# Altium footprint library OSSI.PCBLIB: 194 footprints (part 4 of 13)
Each footprint in its own frame and in the unit in brackets; x right, y up, seen from the top. Pads: shape width x height; smd on the part's side, far side on the other; paste and mask are expansions set on the pad; w line width, h text height; cw(c..) or ccw(c..) is an arc to the next point about the centre after c.
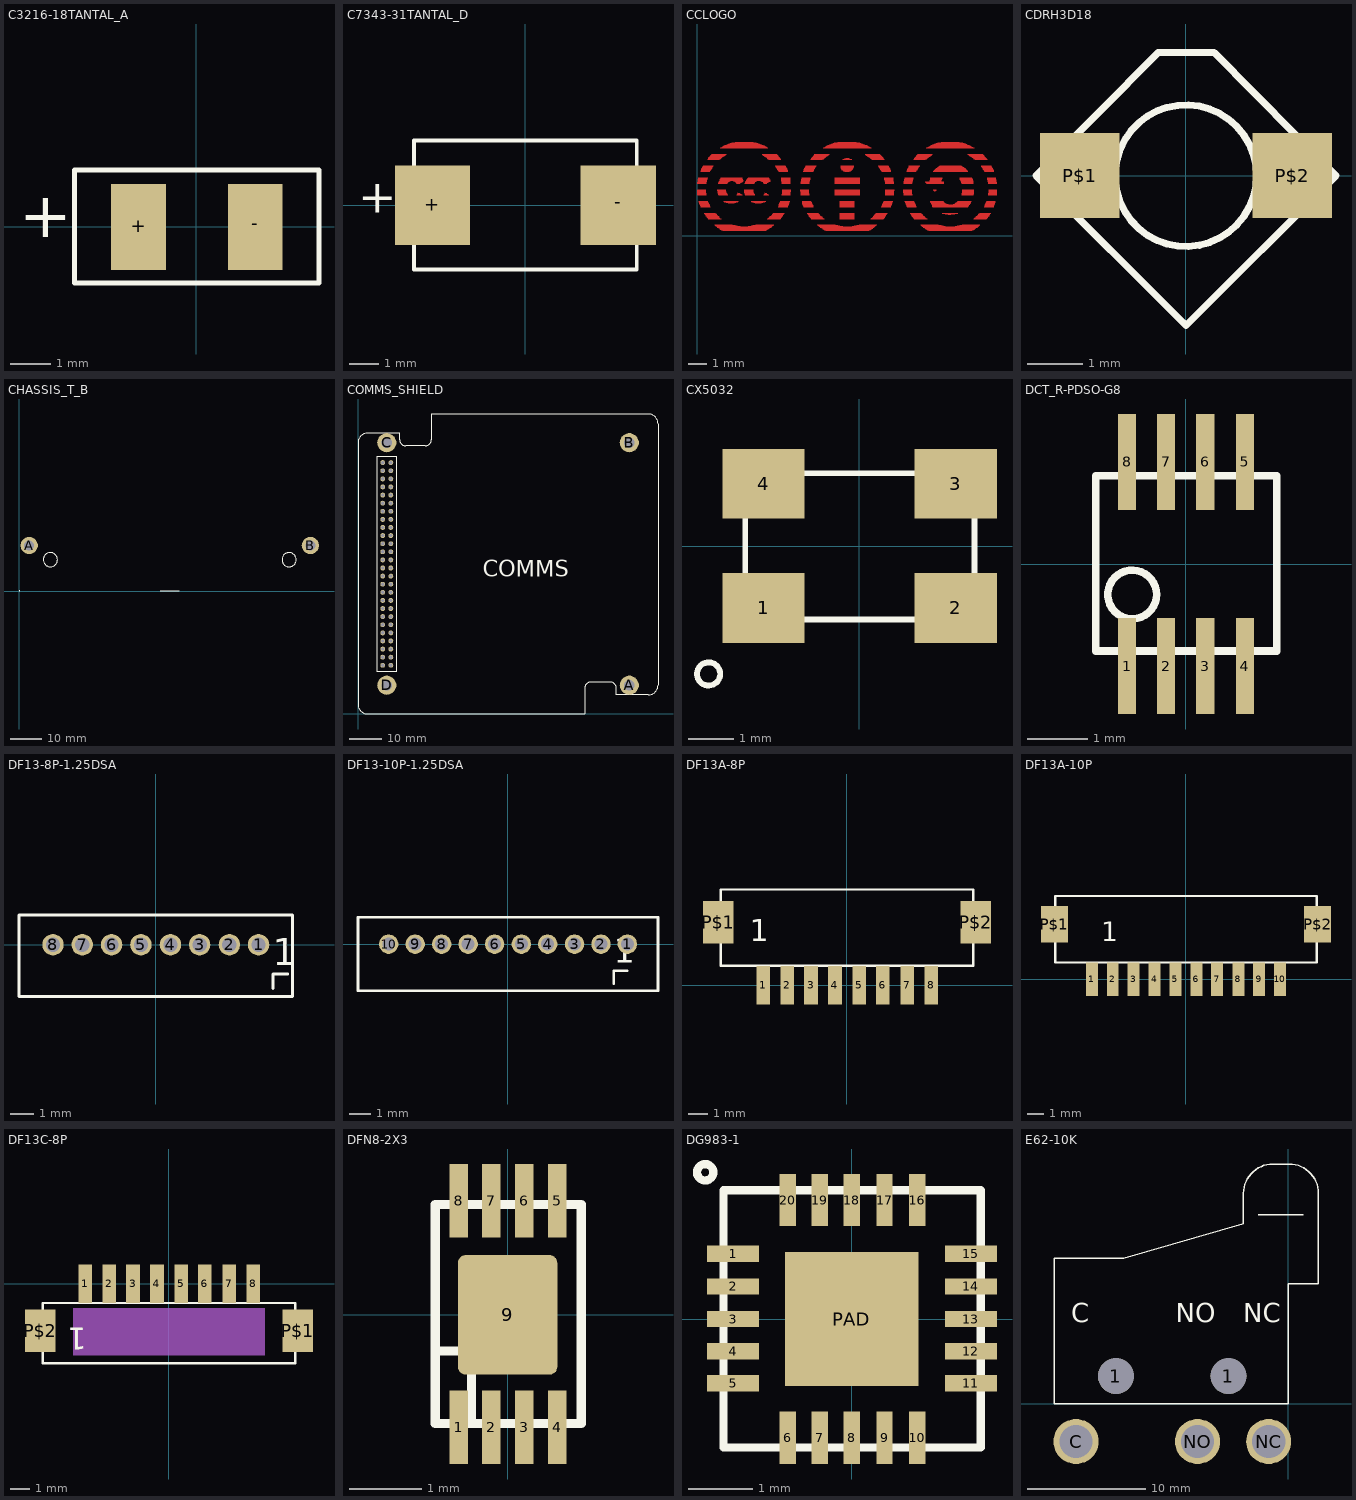
[diagram p3: the footprints below, top view; thin cyan lines are the x and y axes]

## C3216-18TANTAL_A [mil]
pads (2):
  rect 54x85 smd: +(-57.09,0) -(58,0)
Top Overlay:
  lines w5: -120.08,-55.12 121,-55.12 121,56 -120.08,56 -120.08,-55.12
  text "+" at -175,-25 h77.5
Mechanical 2:
  text ">NAME" at -125,75 h77.5
Mechanical 4:
  text ">VALUE" at -125,-125 h77.5

## C7343-31TANTAL_D [mil]
pads (2):
  rect 101x107 smd: +(-125,0) -(125,0)
Top Overlay:
  lines w5: -149.61,-86.61 150,-86.61 150,87 -149.61,87 -149.61,-86.61
  text "+" at -225,-25 h77.5
Mechanical 2:
  text ">NAME" at -157.48,119 h77.5
Mechanical 4:
  text ">VALUE" at -157.48,-157.48 h77.5

## CCLOGO [mil]
Top Layer:
  drawing of 1816 lines, arcs and shapes, not listed
Top Solder:
  drawing of 1816 lines, arcs and shapes, not listed

## CDRH3D18 [mil]
pads (2):
  rect 56x60 smd: P$1(-74.8,0) P$2(75,0)
Top Overlay:
  circle w5: c0,0 r50
  lines w5: -105.79,0 -19.49,87 20,87 106,0 0,-105.79 -105.79,0
Mechanical 2:
  text ">NAME" at -100,-250 h77.5
Mechanical 4:
  text ">VALUE" at -100,-300 h77.5

## CHASSIS_T_B [mil]
pads (2):
  round 217 hole 126: A(128,571) B(3652,571)
Top Overlay:
  circle w5: c394,394 r89
  circle w5: c3386,394 r89
  region: 0,0 10,0 10,10 0,10
  lines w5: 1772,0 2008,0

## COMMS_SHIELD [mil]
pads (56):
  round 60 hole 40: 1(405,601) 2(305,601) 3(405,701) 4(305,701) 5(405,801) 6(305,801) 7(405,901) 8(305,901) 9(405,1001) 10(305,1001) 11(405,1101) 12(305,1101) 13(405,1201) 14(305,1201) 15(405,1301) 16(305,1301) 17(405,1401) 18(305,1401) 19(405,1501) 20(305,1501) 21(405,1601) 22(305,1601) 23(405,1701) 24(305,1701) 25(405,1801) 26(305,1801) 27(405,1901) 28(305,1901) 29(405,2001) 30(305,2001) 31(405,2101) 32(305,2101) 33(405,2201) 34(305,2201) 35(405,2301) 36(305,2301) 37(405,2401) 38(305,2401) 39(405,2501) 40(305,2501) 41(405,2601) 42(305,2601) 43(405,2701) 44(305,2701) 45(405,2801) 46(305,2801) 47(405,2901) 48(305,2901) 49(405,3001) 50(305,3001) 51(405,3101) 52(305,3101)
  round 237 hole 126: A(3347,355) B(3347,3347) C(355,3347) D(355,355)
Top Overlay:
  lines w0: 0,119 0,3347 cw(c118.5,3346.5) 119,3465 512,3465 512,3386 ccw(c590.5,3386.5) 591,3308 827,3308 ccw(c827.5,3386.5) 906,3386 906,3701 3583,3701 cw(c3583,3583) 3701,3583 3701,355 cw(c3583,355) 3583,237 3189,237 3189,315 ccw(c3110.5,315.5) 3111,394 2875,394 ccw(c2875,315) 2796,315 2796,0 119,0 cw(c119,119) 0,119
  lines w10: 237,521 472,521 472,3181 237,3181 237,521
  text "COMMS" at 1536,1693 h201.45

## CX5032 [mil]
pads (4):
  rect 71x60 smd: 1(-82.68,-53.15) 2(83,-53.15) 3(83,54) 4(-82.68,54)
Top Overlay:
  circle w5: c-130,-110 r10
  lines w5: -98.43,-62.99 99,-62.99 99,63 -98.43,63 -98.43,-62.99
Mechanical 2:
  text ">NAME" at -130,-200 h77.5
Mechanical 4:
  text ">VALUE" at -130,-250 h77.5

## DCT_R-PDSO-G8 [mil]
pads (8):
  rect 12x63 smd: 1(-38.39,-66.93) 2(-12.8,-66.93) 3(13,-66.93) 4(39,-66.93) 5(39,67) 6(13,67) 7(-12.8,67) 8(-38.39,67)
Top Overlay:
  circle w5: c-35,-20 r16
  lines w5: -59.06,-57.09 60,-57.09 60,58 -59.06,58 -59.06,-57.09
Mechanical 2:
  text ">NAME" at -66.93,-133.86 h77.5
Mechanical 4:
  text ">VALUE" at 125,-145 h77.5

## DF13-8P-1.25DSA [mil]
pads (8):
  round 36 hole 24: 1(173,0) 2(124,0) 3(74,0) 4(25,0) 5(-24.61,0) 6(-73.82,0) 7(-123.03,0) 8(-172.24,0)
Top Overlay:
  lines w5: 197,-73.82 197,-49.21 222,-49.21 ; -229.33,-86.61 230,-86.61 230,50 -229.33,50 -229.33,-86.61
  text "1" at 197,-49.21 h77.5
Mechanical 2:
  text ">NAME" at -225,-150 h77.5
Mechanical 4:
  text ">VALUE" at -225,-225 h77.5

## DF13-10P-1.25DSA [mil]
pads (10):
  round 36 hole 24: 1(222,0) 2(173,0) 3(124,0) 4(74,0) 5(25,0) 6(-24.61,0) 7(-73.82,0) 8(-123.03,0) 9(-172.24,0) 10(-221.46,0)
Top Overlay:
  lines w5: 197,-73.82 197,-49.21 222,-49.21 ; -278.54,-86.61 279,-86.61 279,50 -278.54,50 -278.54,-86.61
  text "1" at 197,-49.21 h77.5
Mechanical 2:
  text ">NAME" at -225,-150 h77.5
Mechanical 4:
  text ">VALUE" at -225,-225 h77.5

## DF13A-8P [mil]
pads (10):
  rect 28x79 smd: 1(-172.24,0) 2(-123.03,0) 3(-73.82,0) 4(-24.61,0) 5(25,0) 6(74,0) 7(124,0) 8(173,0)
  rect 63x87 smd: P$1(-264.76,130) P$2(265,130)
Top Overlay:
  lines w5: -259.84,40 260,40 260,197 -259.84,197 -259.84,40
  text "1" at -200,75 h77.5
Mechanical 2:
  text ">NAME" at -236.22,276 h77.5
Mechanical 4:
  text ">VALUE" at -236.22,222 h77.5

## DF13A-10P [mil]
pads (12):
  rect 28x79 smd: 1(-221.46,0) 2(-172.24,0) 3(-123.03,0) 4(-73.82,0) 5(-24.61,0) 6(25,0) 7(74,0) 8(124,0) 9(173,0) 10(222,0)
  rect 63x87 smd: P$1(-310.04,130) P$2(311,130)
Top Overlay:
  lines w5: -308.07,40 309,40 309,197 -308.07,197 -308.07,40
  text "1" at -200,75 h77.5
Mechanical 2:
  text ">NAME" at -236.22,276 h77.5
Mechanical 4:
  text ">VALUE" at -236.22,222 h77.5

## DF13C-8P [mil]
pads (10):
  rect 28x79 smd: 1(-172.24,0) 2(-123.03,0) 3(-73.82,0) 4(-24.61,0) 5(25,0) 6(74,0) 7(124,0) 8(173,0)
  rect 63x87 smd: P$1(265,-96.46) P$2(-264.76,-96.46)
Top Overlay:
  lines w5: -259.84,-163.39 260,-163.39 260,-39.37 -259.84,-39.37 -259.84,-163.39
  text "1" at -169.09,-75 h77.5
Mechanical 2:
  text ">NAME" at -260.83,-216.54 h77.5
Mechanical 4:
  text ">VALUE" at -260.83,-270.28 h77.5
Mechanical 27:
  rectangle: -196.85,-147.64 197,-49.21

## DFN8-2X3 [mil]
pads (9):
  rect 10x40 smd: 1(-26.57,-61.02) 2(-8.86,-61.02) 3(9,-61.02) 4(27,-61.02) 5(27,62) 6(9,62) 7(-8.86,62) 8(-26.57,62)
  rrect15% 54x65 smd: 9(0,0)
Top Overlay:
  lines w5: -39.37,-19.68 -39.37,-59.06 -19.68,-59.06 ; -39.37,-19.68 -39.37,60 40,60 40,-59.06 -19.68,-59.06 ; -39.37,-19.68 -19.68,-19.68 -19.68,-59.06
Mechanical 2:
  text ">NAME" at 119,-118.11 h77.5
Mechanical 4:
  text ">VALUE" at 178,-118.11 h77.5

## DG983-1 [mil]
pads (21):
  rect 32x10 smd: 1(-72.83,40) 2(-72.83,20) 3(-72.83,0) 4(-72.83,-19.68) 5(-72.83,-39.37) 11(73,-39.37) 12(73,-19.68) 13(73,0) 14(73,20) 15(73,40)
  rect 10x32 smd: 6(-39.37,-72.83) 7(-19.68,-72.83) 8(0,-72.83) 9(20,-72.83) 10(40,-72.83) 16(40,73) 17(20,73) 18(0,73) 19(-19.68,73) 20(-39.37,73)
  rect 82x82 smd: PAD(0,0)
Top Overlay:
  circle w5: c-90,90 r5
  lines w5: -78.74,-78.74 -78.74,79 79,79 79,-78.74 -78.74,-78.74
Mechanical 2:
  text ">NAME" at -157.48,119 h108.5
Mechanical 4:
  text ">VALUE" at -157.48,-196.85 h108.5

## E62-10K [mil]
pads (5):
  round 119 hole 119: 1(-575.2,93) 1(-200,93)
  round 150 hole 111: C(-708.27,-125.2) NC(-66.14,-125.2) NO(-303.15,-125.2)
Top Overlay:
  lines w5: -100,630 50,630 ; -781.1,0 -781.1,485 -550,485 -150,600 -150,702 cw(c-51.79,701.79) -51.57,800 2,800 cw(c2,702) 100,702 100,400 0,400 0,0 -781.1,0
  text "C" at -725,250 h108.5
  text "NO" at -375,250 h108.5
  text "NC" at -150,250 h108.5